# EAGLE library part MAX17501 (library r2p_ic)
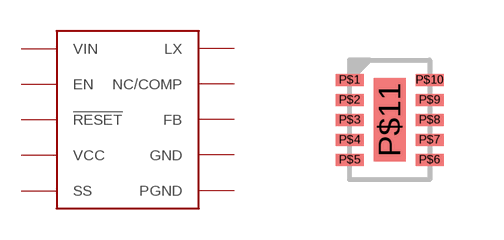
[diagram p1: symbol with the pads of TDFN-10; footprint TDFN-10]

Designator prefix U

## MAX17501  [TDFN-10]
P$1  PGND
P$2  VIN
P$3  EN
P$4  VCC
P$5  FB
P$6  SS
P$7  NC/COMP
P$8  !RESET
P$9  GND
P$10  LX
P$11  PGND

## Footprint TDFN-10 (pad centres in mm)
smd 0.7 x 0.3: P$1 -1,1; P$2 -1,0.5; P$3 -1,0; P$4 -1,-0.5; P$5 -1,-1; P$6 1,-1; P$7 1,-0.5; P$8 1,0; P$9 1,0.5; P$10 1,1
smd 0.8 x 2.08: P$11 0,0